# EAGLE library part 01STANDARD_TOR-16P-HT6.5 (library Wurth Electronics Midcom Inc V1-0)
Package Style: Standard TOR-16P-HT6.5 Mounting: SMD Pins: 16 pins Header: 250-0592 Best pinouts for production vary per application. Please contact Wurth Electronics Midcom, Inc. for assistance with your custom design. Website: Wurth Electronics Midcom <http://www.we-online.com/midcom> Contact us Wurth Electronics Midcom, Inc. 121 Airport Dr. Watertown, SD 57201 Phone: (605) 886-4385 Fax: (605) 886-4486 E-Mail: midcom@we-online.com
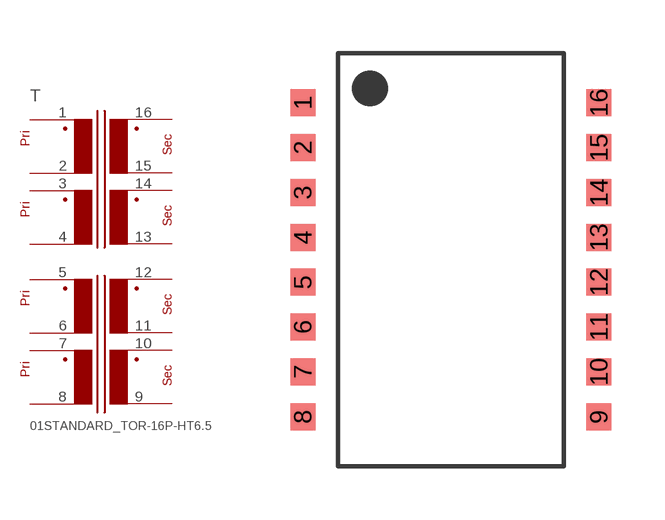
[diagram p140: symbol with the pads of 01STANDARD_TOR-16P-HT6.5; footprint 01STANDARD_TOR-16P-HT6.5]

Designator prefix T

## 01STANDARD_TOR-16P-HT6.5  [01STANDARD_TOR-16P-HT6.5]
1  1  pas
2  2  pas
3  3  pas
4  4  pas
5  5  pas
6  6  pas
7  7  pas
8  8  pas
9  16  pas
10  15  pas
11  14  pas
12  13  pas
13  12  pas
14  11  pas
15  10  pas
16  9  pas

## Footprint 01STANDARD_TOR-16P-HT6.5 (pad centres in mm)
Package Style: Standard TOR-16P-HT6.5 Mounting: SMD Pins: 16 pins Header: 250-0592
smd 0.711 x 0.762: 1 -4.191,4.445; 2 -4.191,3.175; 3 -4.191,1.905; 4 -4.191,0.635; 5 -4.191,-0.635; 6 -4.191,-1.905; 7 -4.191,-3.175; 8 -4.191,-4.445; 9 4.191,-4.445; 10 4.191,-3.175; 11 4.191,-1.905; 12 4.191,-0.635; 13 4.191,0.635; 14 4.191,1.905; 15 4.191,3.175; 16 4.191,4.445